# EAGLE library part CONNETTORI_0114_PH254-203DF118A00V (library MEGA2560_Rev3e)
3x2 M V h 8,5 mm p2,54
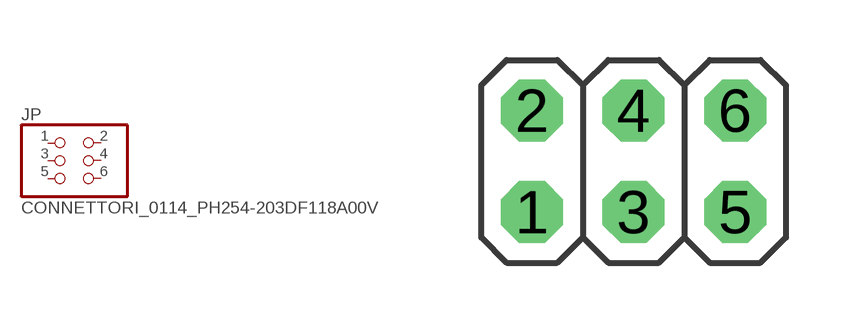
[diagram p3: symbol with the pads of CONNETTORI_2X03; footprint CONNETTORI_2X03]

Designator prefix JP

## CONNETTORI_0114_PH254-203DF118A00V (MONTHLY_USAGE: _____; PART_NUMBER: PH254-203DF118A00V; PRICE: _____; SUPPLIER: _____; TYPE: Connettori; VALUE: ICSP)  [CONNETTORI_2X03]
1  1  pas
2  2  pas
3  3  pas
4  4  pas
5  5  pas
6  6  pas

## Footprint CONNETTORI_2X03 (pad centres in mm)
PIN HEADER
drill 1.016 pad 1.55 octagon: 1 -2.54,-1.27; 2 -2.54,1.27; 3 0,-1.27; 4 0,1.27; 5 2.54,-1.27; 6 2.54,1.27